# EAGLE library part DFPLAYER_V1_DFPLAYER (library Troopduino)
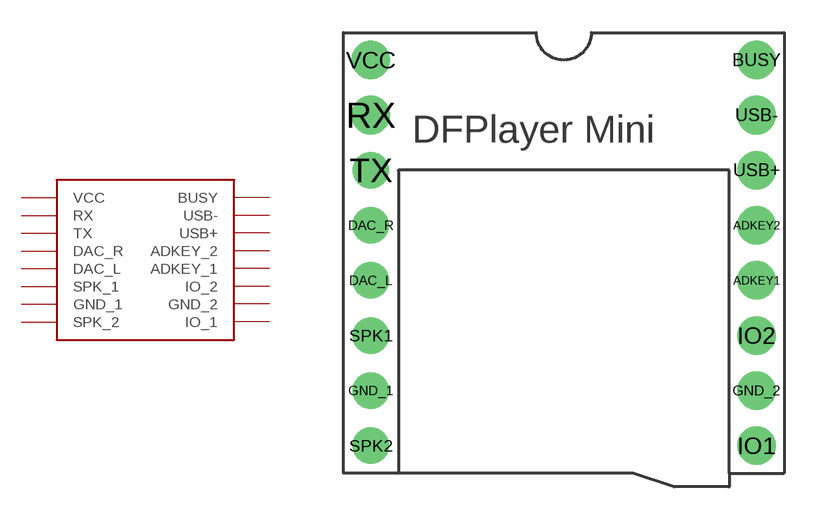
[diagram p1: symbol with the pads of DFPLAYER_V1_DFPLAYER; footprint DFPLAYER_V1_DFPLAYER]

Designator prefix -

## DFPLAYER_V1_DFPLAYER  [DFPLAYER_V1_DFPLAYER]
ADKEY1  ADKEY_1
ADKEY2  ADKEY_2
BUSY  BUSY
DAC_L  DAC_L
DAC_R  DAC_R
GND_1  GND_1
GND_2  GND_2
IO1  IO_1
IO2  IO_2
RX  RX
SPK1  SPK_1
SPK2  SPK_2
TX  TX
USB+  USB+
USB-  USB-
VCC  VCC

## Footprint DFPLAYER_V1_DFPLAYER (pad centres in mm)
drill 1.1 pad 1.778: ADKEY1 8.89,-1.27; ADKEY2 8.89,1.27; BUSY 8.89,8.89; GND_2 8.89,-6.35; IO1 8.89,-8.89; IO2 8.89,-3.81; RX -8.89,6.35; USB+ 8.89,3.81; USB- 8.89,6.35; VCC -8.89,8.89
drill 1.1 pad 1.676: DAC_L -8.89,-1.27; DAC_R -8.89,1.27; GND_1 -8.89,-6.35; SPK1 -8.89,-3.81; SPK2 -8.89,-8.89; TX -8.89,3.81